# Altium footprint library 1206_C2.PcbLib: 1 footprints
Each footprint in its own frame and in the unit in brackets; x right, y up, seen from the top. Pads: shape width x height; smd on the part's side, far side on the other; paste and mask are expansions set on the pad; w line width, h text height; cw(c..) or ccw(c..) is an arc to the next point about the centre after c.
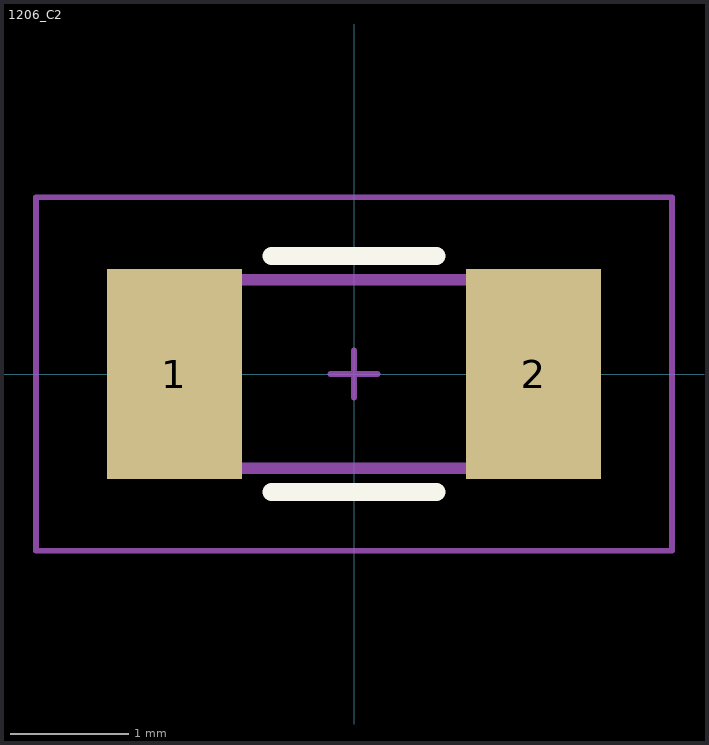
[diagram p0: the footprint, top view; thin cyan lines are the x and y axes]

## 1206_C2 [mil]
height 62.99
pads (2):
  rect 45x70 smd: 1(-60,0) 2(60,0)
Top Overlay:
  lines w6: -27.56,-39.37 27.56,-39.37 ; -27.56,39.37 27.56,39.37
Mechanical 13:
  lines w3.94: -51.18,-31.5 -51.18,31.5 ; 51.18,-31.5 51.18,31.5 ; -62.99,-31.5 -62.99,31.5 62.99,31.5 62.99,-31.5 -62.99,-31.5
Mechanical 15:
  lines w1.97: -7.87,0 -0.01,0 ; 0,-7.87 0,7.87 ; -0.01,0 0,0 ; 0,0 7.87,0 ; 7.87,0 7.87,0 ; -106.3,-59.06 -106.3,59.06 106.3,59.06 106.3,-59.06 -106.3,-59.06
3D body: height 62.99, standoff 0, extent -51.16,-31.48 51.16,31.48
3D body: height 62.99, standoff 0, extent 51.2,-31.48 62.97,31.48
3D body: height 62.99, standoff 0, extent -62.97,-31.48 -51.2,31.48